# Altium footprint library Nordic.PcbLib: 1 footprints
Each footprint in its own frame and in the unit in brackets; x right, y up, seen from the top. Pads: shape width x height; smd on the part's side, far side on the other; paste and mask are expansions set on the pad; w line width, h text height; cw(c..) or ccw(c..) is an arc to the next point about the centre after c.
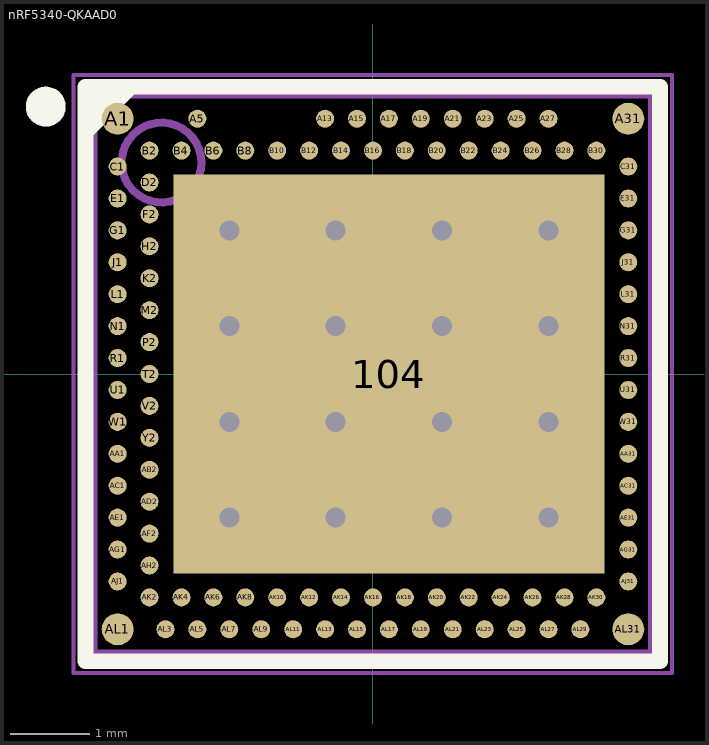
[diagram p0: the footprint, top view; thin cyan lines are the x and y axes]

## nRF5340-QKAAD0 [mm] "AQFN40P700X700X85_HS-99N"
pads (115):
  rect 5.4x5 smd paste-5 mask+0.05: 104(0.2,0)
  round 0.4 smd paste+0.012 mask+0.05: A1(-3.2,3.2) A31(3.2,3.2) AL1(-3.2,-3.2) AL31(3.2,-3.2)
  round 0.225 smd paste+0.012 mask+0.04: A5(-2.2,3.2) A13(-0.6,3.2) A15(-0.2,3.2) A17(0.2,3.2) A19(0.6,3.2) A21(1,3.2) A23(1.4,3.2) A25(1.8,3.2) A27(2.2,3.2) AA1(-3.2,-1) AA31(3.2,-1) AB2(-2.8,-1.2) AC1(-3.2,-1.4) AC31(3.2,-1.4) AD2(-2.8,-1.6) AE1(-3.2,-1.8) AE31(3.2,-1.8) AF2(-2.8,-2) AG1(-3.2,-2.2) AG31(3.2,-2.2) AH2(-2.8,-2.4) AJ1(-3.2,-2.6) AJ31(3.2,-2.6) AK2(-2.8,-2.8) AK4(-2.4,-2.8) AK6(-2,-2.8) AK8(-1.6,-2.8) AK10(-1.2,-2.8) AK12(-0.8,-2.8) AK14(-0.4,-2.8) AK16(0,-2.8) AK18(0.4,-2.8) AK20(0.8,-2.8) AK22(1.2,-2.8) AK24(1.6,-2.8) AK26(2,-2.8) AK28(2.4,-2.8) AK30(2.8,-2.8) AL3(-2.6,-3.2) AL5(-2.2,-3.2) AL7(-1.8,-3.2) AL9(-1.4,-3.2) AL11(-1,-3.2) AL13(-0.6,-3.2) AL15(-0.2,-3.2) AL17(0.2,-3.2) AL19(0.6,-3.2) AL21(1,-3.2) AL23(1.4,-3.2) AL25(1.8,-3.2) AL27(2.2,-3.2) AL29(2.6,-3.2) B2(-2.8,2.8) B4(-2.4,2.8) B6(-2,2.8) B8(-1.6,2.8) B10(-1.2,2.8) B12(-0.8,2.8) B14(-0.4,2.8) B16(0,2.8) B18(0.4,2.8) B20(0.8,2.8) B22(1.2,2.8) B24(1.6,2.8) B26(2,2.8) B28(2.4,2.8) B30(2.8,2.8) C1(-3.2,2.6) C31(3.2,2.6) D2(-2.8,2.4) E1(-3.2,2.2) E31(3.2,2.2) F2(-2.8,2) G1(-3.2,1.8) G31(3.2,1.8) H2(-2.8,1.6) J1(-3.2,1.4) J31(3.2,1.4) K2(-2.8,1.2) L1(-3.2,1) L31(3.2,1) M2(-2.8,0.8) N1(-3.2,0.6) N31(3.2,0.6) P2(-2.8,0.4) R1(-3.2,0.2) R31(3.2,0.2) T2(-2.8,0) U1(-3.2,-0.2) U31(3.2,-0.2) V2(-2.8,-0.4) W1(-3.2,-0.6) W31(3.2,-0.6) Y2(-2.8,-0.8)
  rrect50% 1.1x1 on Top Paste: ""(-1.75,-1.8) ""(-1.75,-0.6) ""(-1.75,0.6) ""(-1.75,1.8) ""(-0.45,-1.8) ""(-0.45,-0.6) ""(-0.45,0.6) ""(-0.45,1.8) ""(0.85,-1.8) ""(0.85,-0.6) ""(0.85,0.6) ""(0.85,1.8) ""(2.15,-1.8) ""(2.15,-0.6) ""(2.15,0.6) ""(2.15,1.8)
via -1.8,1.8 diameter 0.5 hole 0.25
via -0.467,1.8 diameter 0.5 hole 0.25
via 0.867,1.8 diameter 0.5 hole 0.25
via 2.2,1.8 diameter 0.5 hole 0.25
via -1.8,0.6 diameter 0.5 hole 0.25
via -0.467,0.6 diameter 0.5 hole 0.25
via 0.867,0.6 diameter 0.5 hole 0.25
via 2.2,0.6 diameter 0.5 hole 0.25
via -1.8,-0.6 diameter 0.5 hole 0.25
via -0.467,-0.6 diameter 0.5 hole 0.25
via 0.867,-0.6 diameter 0.5 hole 0.25
via 2.2,-0.6 diameter 0.5 hole 0.25
via -1.8,-1.8 diameter 0.5 hole 0.25
via -0.467,-1.8 diameter 0.5 hole 0.25
via 0.867,-1.8 diameter 0.5 hole 0.25
via 2.2,-1.8 diameter 0.5 hole 0.25
Top Overlay:
  circle w0.25: c-4.1,3.35 r0.125
  region: -3,3.5 -3.5,3 -3.5,3.5
  lines w0.2: -3.6,-3.6 -3.6,3.6 3.6,3.6 3.6,-3.6 -3.6,-3.6
Mechanical 5:
  drawing of 564 lines, arcs and shapes, not listed
  text "AG1" at -3.541,-2.24 h0.08
  text "AJ1" at -3.541,-2.64 h0.08
  text "AH2" at -3.208,-2.44 h0.08
  text "AK4" at -2.508,-3.039 h0.08
  text "AL5" at -2.315,-3.439 h0.08
  text "AK2" at -2.908,-3.013 h0.08
  text "AL3" at -2.715,-3.439 h0.08
  text "V2" at -3.128,-0.44 h0.08
  text "U1" at -3.469,-0.24 h0.08
  text "Y2" at -3.128,-0.84 h0.08
  text "AA1" at -3.534,-1.04 h0.08
  text "W1" at -3.469,-0.64 h0.08
  text "AD2" at -3.208,-1.64 h0.08
  text "AC1" at -3.541,-1.44 h0.08
  text "AE1" at -3.521,-1.84 h0.08
  text "AB2" at -3.208,-1.24 h0.08
  text "H2" at -3.128,1.56 h0.08
  text "J1" at -3.469,1.36 h0.08
  text "G1" at -3.469,1.76 h0.08
  text "M2" at -3.128,0.76 h0.08
  text "L1" at -3.489,0.96 h0.08
  text "P2" at -3.128,0.36 h0.08
  text "R1" at -3.456,0.16 h0.08
  text "N1" at -3.449,0.56 h0.08
  text "K2" at -3.128,1.16 h0.08
  text "D2" at -3.128,2.36 h0.08
  text "E1" at -3.449,2.16 h0.08
  text "C1" at -3.469,2.56 h0.08
  text "B4" at -2.469,2.961 h0.08
  text "A5" at -2.272,3.361 h0.08
  text "B2" at -2.853,2.947 h0.08
  text "AK14" at -0.538,-3.039 h0.08
  text "AL13" at -0.744,-3.439 h0.08
  text "AK10" at -1.338,-3.04 h0.08
  text "AL11" at -1.144,-3.439 h0.08
  text "AK12" at -0.938,-3.039 h0.08
  text "AK8" at -1.708,-3.039 h0.08
  text "AL7" at -1.915,-3.439 h0.08
  text "AL9" at -1.544,-3.439 h0.08
  text "AL15" at -0.344,-3.439 h0.08
  text "B14" at -0.498,2.961 h0.08
  text "A13" at -0.702,3.36 h0.08
  text "B10" at -1.298,2.961 h0.08
  text "B12" at -0.898,2.961 h0.08
  text "B8" at -1.669,2.961 h0.08
  text "A15" at -0.302,3.361 h0.08
  text "AK24" at 1.462,-3.039 h0.08
  text "AL23" at 1.256,-3.439 h0.08
  text "AL25" at 1.656,-3.439 h0.08
  text "AK20" at 0.662,-3.04 h0.08
  text "AL21" at 0.856,-3.439 h0.08
  text "AK18" at 0.262,-3.039 h0.08
  text "AL17" at 0.056,-3.439 h0.08
  text "AL19" at 0.456,-3.439 h0.08
  text "AK22" at 1.062,-3.039 h0.08
  text "B24" at 1.502,2.961 h0.08
  text "A23" at 1.298,3.36 h0.08
  text "A25" at 1.698,3.361 h0.08
  text "B20" at 0.702,2.961 h0.08
  text "A21" at 0.898,3.36 h0.08
  text "B18" at 0.302,2.961 h0.08
  text "A17" at 0.098,3.361 h0.08
  text "A19" at 0.498,3.361 h0.08
  text "B22" at 1.102,2.961 h0.08
  text "AL29" at 2.456,-3.439 h0.08
  text "AL27" at 2.056,-3.439 h0.08
  text "AK28" at 2.262,-3.039 h0.08
  text "AG31" at 3.322,-2.24 h0.08
  text "AJ31" at 3.322,-2.64 h0.08
  text "AK30" at 2.662,-3.039 h0.08
  text "U31" at 3.322,-0.24 h0.08
  text "AA31" at 3.322,-1.04 h0.08
  text "W31" at 3.322,-0.64 h0.08
  text "AC31" at 3.322,-1.44 h0.08
  text "AE31" at 3.322,-1.84 h0.08
  text "J31" at 3.322,1.36 h0.08
  text "G31" at 3.322,1.76 h0.08
  text "L31" at 3.322,0.96 h0.08
  text "R31" at 3.322,0.16 h0.08
  text "N31" at 3.322,0.56 h0.08
  text "E31" at 3.322,2.16 h0.08
  text "C31" at 3.322,2.56 h0.08
  text "B30" at 2.702,2.961 h0.08
  text "A27" at 2.098,3.361 h0.08
  text "B28" at 2.302,2.961 h0.08
  text "AF2" at -3.208,-2.04 h0.08
  text "F2" at -3.128,1.96 h0.08
  text "T2" at -3.128,-0.04 h0.08
  text "AK6" at -2.108,-3.039 h0.08
  text "B6" at -2.069,2.961 h0.08
  text "AK26" at 1.862,-3.039 h0.08
  text "AK16" at -0.138,-3.039 h0.08
  text "B26" at 1.902,2.961 h0.08
  text "B16" at -0.098,2.961 h0.08
Mechanical 7:
  circle w0.1: c-2.65,2.65 r0.5
  lines w0.1: -3.5,-3.5 3.5,-3.5 3.5,3.5 -3.5,3.5 -3.5,-3.5
  text ".Designator" at 0.124,-0.048 h0.64
Mechanical 15:
  lines w0.05: -3.75,-3.75 3.75,-3.75 3.75,3.75 -3.75,3.75 -3.75,-3.75
  lines w0.1: -0.3,0 0.7,0 ; 0.2,-0.5 0.2,0.5
3D body "aQFN-116 (7x7).step": height 0.85, standoff -0.05, extent -3.5,-3.5 3.5,3.5